# Altium footprint library StandardResistors.PcbLib: 6 footprints
Each footprint in its own frame and in the unit in brackets; x right, y up, seen from the top. Pads: shape width x height; smd on the part's side, far side on the other; paste and mask are expansions set on the pad; w line width, h text height; cw(c..) or ccw(c..) is an arc to the next point about the centre after c.
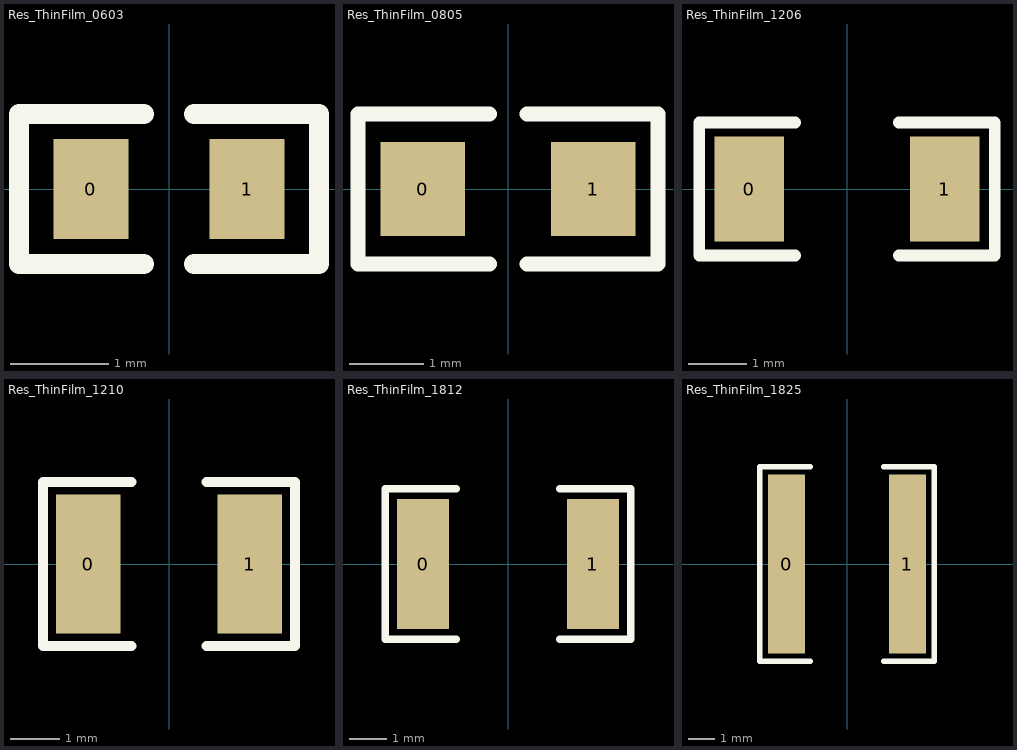
[diagram p0: the footprints below, top view; thin cyan lines are the x and y axes]

## Res_ThinFilm_0603 [mil]
pads (2):
  rect 30x40 smd: 0(-31.24,0) 1(31.24,0)
Top Overlay:
  lines w8: -10,-30 -60,-30 -60,30 -10,30 ; 10,-30 60,-30 60,30 10,30
3D body "RES0603.stp": height 17.72, standoff 0, extent -31.49,-15.74 31.5,15.76

## Res_ThinFilm_0805 [mil]
pads (2):
  rect 45x50 smd: 0(-45.43,0) 1(45.43,0)
Top Overlay:
  lines w8: -10,-40 -80,-40 -80,40 -10,40 ; 10,-40 80,-40 80,40 10,40
3D body "RES0805.stp": height 19.68, standoff 0, extent -39.36,-24.8 39.38,24.42

## Res_ThinFilm_1206 [mil]
pads (2):
  rect 47x71 smd: 0(-66.08,0) 1(66.08,0)
Top Overlay:
  lines w8: -35,-45 -100,-45 -100,45 -35,45 ; 35,-45 100,-45 100,45 35,45
3D body "RES1206.stp": height 21.65, standoff 0, extent -61.02,-30.39 61.03,30.71

## Res_ThinFilm_1210 [mm]
pads (2):
  rect 1.3x2.8 smd: 0(-1.625,0) 1(1.625,0)
Top Overlay:
  lines w0.203: -0.762,-1.651 -2.54,-1.651 -2.54,1.651 -0.762,1.651 ; 0.762,-1.651 2.54,-1.651 2.54,1.651 0.762,1.651

## Res_ThinFilm_1812 [mil]
pads (2):
  rect 55x138 smd: 0(-90,0) 1(90,0)
Top Overlay:
  lines w8: -55,-80 -130,-80 -130,80 -55,80 ; 55,-80 130,-80 130,80 55,80
3D body "ceramic_cap_1812.stp": height 53.15, standoff 0, extent -88.58,-62.99 88.59,63

## Res_ThinFilm_1825 [mm]
pads (2):
  rect 1.4x6.8 smd: 0(-2.286,0) 1(2.286,0)
Top Overlay:
  lines w0.203: -1.397,-3.683 -3.302,-3.683 -3.302,3.683 -1.397,3.683 ; 1.397,-3.683 3.302,-3.683 3.302,3.683 1.397,3.683
3D body "ceramic_cap_1825.stp": height 1.1, standoff 0, extent -2.25,-3.2 2.25,3.2